# Altium schematic symbol library SCH - MCU - STM32 - ST MICROELECTRONICS STM32L476J(E-G)YX WLCSP72.SchLib: 1 symbol
Pins are listed as number, name and electrical type; pins without a type are passive.

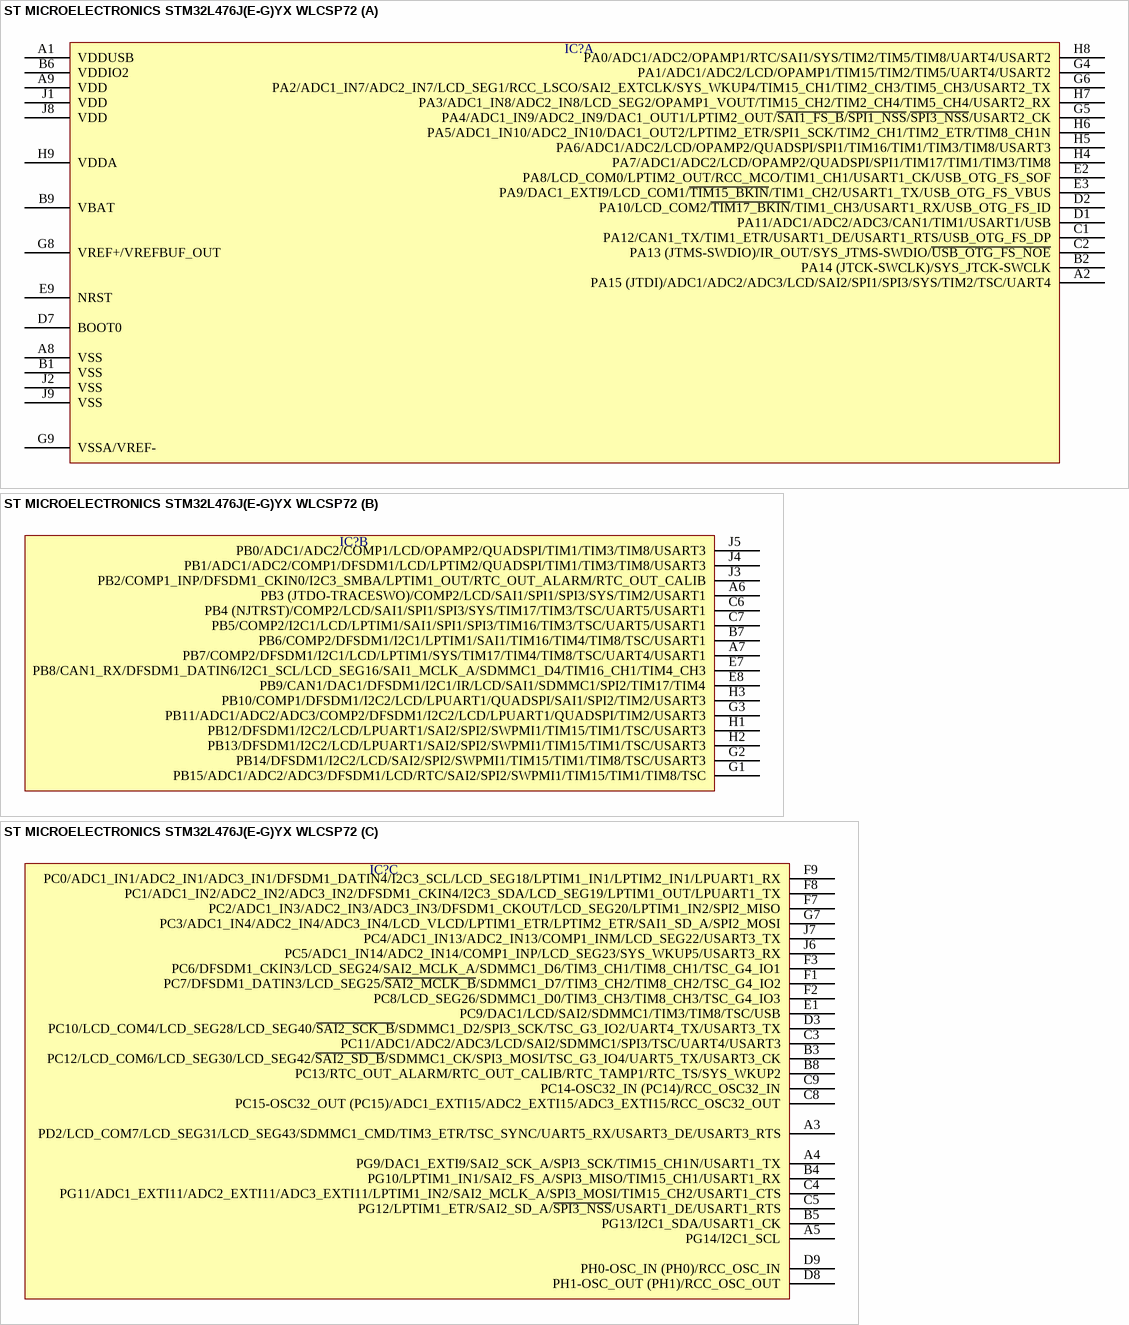
[diagram p0: symbol ST MICROELECTRONICS STM32L476J(E-G)YX WLCSP72]

## ST MICROELECTRONICS STM32L476J(E-G)YX WLCSP72
designator IC?  (value not drawn)
part A pins: A1 VDDUSB, A2 PA15 (JTDI)/ADC1/ADC2/ADC3/LCD/SAI2/SPI1/SPI3/SYS/TIM2/TSC/UART4, A8 VSS, A9 VDD, B1 VSS, B2 PA14 (JTCK-SWCLK)/SYS_JTCK-SWCLK, B6 VDDIO2, B9 VBAT, C1 PA12/CAN1_TX/TIM1_ETR/USART1_DE/USART1_RTS/USB_OTG_FS_DP, C2 PA13 (JTMS-SWDIO)/IR_OUT/SYS_JTMS-SWDIO/~{USB_OTG_FS_NOE}, D1 PA11/ADC1/ADC2/ADC3/CAN1/TIM1/USART1/USB, D2 PA10/LCD_COM2/~{TIM17_BKIN}/TIM1_CH3/USART1_RX/USB_OTG_FS_ID, D7 BOOT0, E2 PA8/LCD_COM0/LPTIM2_OUT/RCC_MCO/TIM1_CH1/USART1_CK/USB_OTG_FS_SOF, E3 PA9/DAC1_EXTI9/LCD_COM1/~{TIM15_BKIN}/TIM1_CH2/USART1_TX/USB_OTG_FS_VBUS, E9 NRST, G4 PA1/ADC1/ADC2/LCD/OPAMP1/TIM15/TIM2/TIM5/UART4/USART2, G5 PA4/ADC1_IN9/ADC2_IN9/DAC1_OUT1/LPTIM2_OUT/~{SAI1_FS_B}/~{SPI1_NSS}/~{SPI3_NSS}/USART2_CK, G6 PA2/ADC1_IN7/ADC2_IN7/LCD_SEG1/RCC_LSCO/SAI2_EXTCLK/SYS_WKUP4/TIM15_CH1/TIM2_CH3/TIM5_CH3/USART2_TX, G8 VREF+/VREFBUF_OUT, G9 VSSA/VREF-, H4 PA7/ADC1/ADC2/LCD/OPAMP2/QUADSPI/SPI1/TIM17/TIM1/TIM3/TIM8, H5 PA6/ADC1/ADC2/LCD/OPAMP2/QUADSPI/SPI1/TIM16/TIM1/TIM3/TIM8/USART3, H6 PA5/ADC1_IN10/ADC2_IN10/DAC1_OUT2/LPTIM2_ETR/SPI1_SCK/TIM2_CH1/TIM2_ETR/TIM8_CH1N, H7 PA3/ADC1_IN8/ADC2_IN8/LCD_SEG2/OPAMP1_VOUT/TIM15_CH2/TIM2_CH4/TIM5_CH4/USART2_RX, H8 PA0/ADC1/ADC2/OPAMP1/RTC/SAI1/SYS/TIM2/TIM5/TIM8/UART4/USART2, H9 VDDA, J1 VDD, J2 VSS, J8 VDD, J9 VSS
part B pins: A6 PB3 (JTDO-TRACESWO)/COMP2/LCD/SAI1/SPI1/SPI3/SYS/TIM2/USART1, A7 PB7/COMP2/DFSDM1/I2C1/LCD/LPTIM1/SYS/TIM17/TIM4/TIM8/TSC/UART4/USART1, B7 PB6/COMP2/DFSDM1/I2C1/LPTIM1/SAI1/TIM16/TIM4/TIM8/TSC/USART1, C6 PB4 (NJTRST)/COMP2/LCD/SAI1/SPI1/SPI3/SYS/TIM17/TIM3/TSC/UART5/USART1, C7 PB5/COMP2/I2C1/LCD/LPTIM1/SAI1/SPI1/SPI3/TIM16/TIM3/TSC/UART5/USART1, E7 PB8/CAN1_RX/DFSDM1_DATIN6/I2C1_SCL/LCD_SEG16/SAI1_MCLK_A/SDMMC1_D4/TIM16_CH1/TIM4_CH3, E8 PB9/CAN1/DAC1/DFSDM1/I2C1/IR/LCD/SAI1/SDMMC1/SPI2/TIM17/TIM4, G1 PB15/ADC1/ADC2/ADC3/DFSDM1/LCD/RTC/SAI2/SPI2/SWPMI1/TIM15/TIM1/TIM8/TSC, G2 PB14/DFSDM1/I2C2/LCD/SAI2/SPI2/SWPMI1/TIM15/TIM1/TIM8/TSC/USART3, G3 PB11/ADC1/ADC2/ADC3/COMP2/DFSDM1/I2C2/LCD/LPUART1/QUADSPI/TIM2/USART3, H1 PB12/DFSDM1/I2C2/LCD/LPUART1/SAI2/SPI2/SWPMI1/TIM15/TIM1/TSC/USART3, H2 PB13/DFSDM1/I2C2/LCD/LPUART1/SAI2/SPI2/SWPMI1/TIM15/TIM1/TSC/USART3, H3 PB10/COMP1/DFSDM1/I2C2/LCD/LPUART1/QUADSPI/SAI1/SPI2/TIM2/USART3, J3 PB2/COMP1_INP/DFSDM1_CKIN0/I2C3_SMBA/LPTIM1_OUT/RTC_OUT_ALARM/RTC_OUT_CALIB, J4 PB1/ADC1/ADC2/COMP1/DFSDM1/LCD/LPTIM2/QUADSPI/TIM1/TIM3/TIM8/USART3, J5 PB0/ADC1/ADC2/COMP1/LCD/OPAMP2/QUADSPI/TIM1/TIM3/TIM8/USART3
part C pins: A3 PD2/LCD_COM7/LCD_SEG31/LCD_SEG43/SDMMC1_CMD/TIM3_ETR/TSC_SYNC/UART5_RX/USART3_DE/USART3_RTS, A4 PG9/DAC1_EXTI9/SAI2_SCK_A/SPI3_SCK/TIM15_CH1N/USART1_TX, A5 PG14/I2C1_SCL, B3 PC12/LCD_COM6/LCD_SEG30/LCD_SEG42/~{SAI2_SD_B}/SDMMC1_CK/SPI3_MOSI/TSC_G3_IO4/UART5_TX/USART3_CK, B4 PG10/LPTIM1_IN1/SAI2_FS_A/SPI3_MISO/TIM15_CH1/USART1_RX, B5 PG13/I2C1_SDA/USART1_CK, B8 PC13/RTC_OUT_ALARM/RTC_OUT_CALIB/RTC_TAMP1/RTC_TS/SYS_WKUP2, C3 PC11/ADC1/ADC2/ADC3/LCD/SAI2/SDMMC1/SPI3/TSC/UART4/USART3, C4 PG11/ADC1_EXTI11/ADC2_EXTI11/ADC3_EXTI11/LPTIM1_IN2/SAI2_MCLK_A/SPI3_MOSI/TIM15_CH2/USART1_CTS, C5 PG12/LPTIM1_ETR/SAI2_SD_A/~{SPI3_NSS}/USART1_DE/USART1_RTS, C8 PC15-OSC32_OUT (PC15)/ADC1_EXTI15/ADC2_EXTI15/ADC3_EXTI15/RCC_OSC32_OUT, C9 PC14-OSC32_IN (PC14)/RCC_OSC32_IN, D3 PC10/LCD_COM4/LCD_SEG28/LCD_SEG40/~{SAI2_SCK_B}/SDMMC1_D2/SPI3_SCK/TSC_G3_IO2/UART4_TX/USART3_TX, D8 PH1-OSC_OUT (PH1)/RCC_OSC_OUT, D9 PH0-OSC_IN (PH0)/RCC_OSC_IN, E1 PC9/DAC1/LCD/SAI2/SDMMC1/TIM3/TIM8/TSC/USB, F1 PC7/DFSDM1_DATIN3/LCD_SEG25/~{SAI2_MCLK_B}/SDMMC1_D7/TIM3_CH2/TIM8_CH2/TSC_G4_IO2, F2 PC8/LCD_SEG26/SDMMC1_D0/TIM3_CH3/TIM8_CH3/TSC_G4_IO3, F3 PC6/DFSDM1_CKIN3/LCD_SEG24/SAI2_MCLK_A/SDMMC1_D6/TIM3_CH1/TIM8_CH1/TSC_G4_IO1, F7 PC2/ADC1_IN3/ADC2_IN3/ADC3_IN3/DFSDM1_CKOUT/LCD_SEG20/LPTIM1_IN2/SPI2_MISO, F8 PC1/ADC1_IN2/ADC2_IN2/ADC3_IN2/DFSDM1_CKIN4/I2C3_SDA/LCD_SEG19/LPTIM1_OUT/LPUART1_TX, F9 PC0/ADC1_IN1/ADC2_IN1/ADC3_IN1/DFSDM1_DATIN4/I2C3_SCL/LCD_SEG18/LPTIM1_IN1/LPTIM2_IN1/LPUART1_RX, G7 PC3/ADC1_IN4/ADC2_IN4/ADC3_IN4/LCD_VLCD/LPTIM1_ETR/LPTIM2_ETR/SAI1_SD_A/SPI2_MOSI, J6 PC5/ADC1_IN14/ADC2_IN14/COMP1_INP/LCD_SEG23/SYS_WKUP5/USART3_RX, J7 PC4/ADC1_IN13/ADC2_IN13/COMP1_INM/LCD_SEG22/USART3_TX